# Altium schematic symbol library kmilo17pet-NSC_MiscPower.SchLib: 1552 symbols (part 4 of 43)
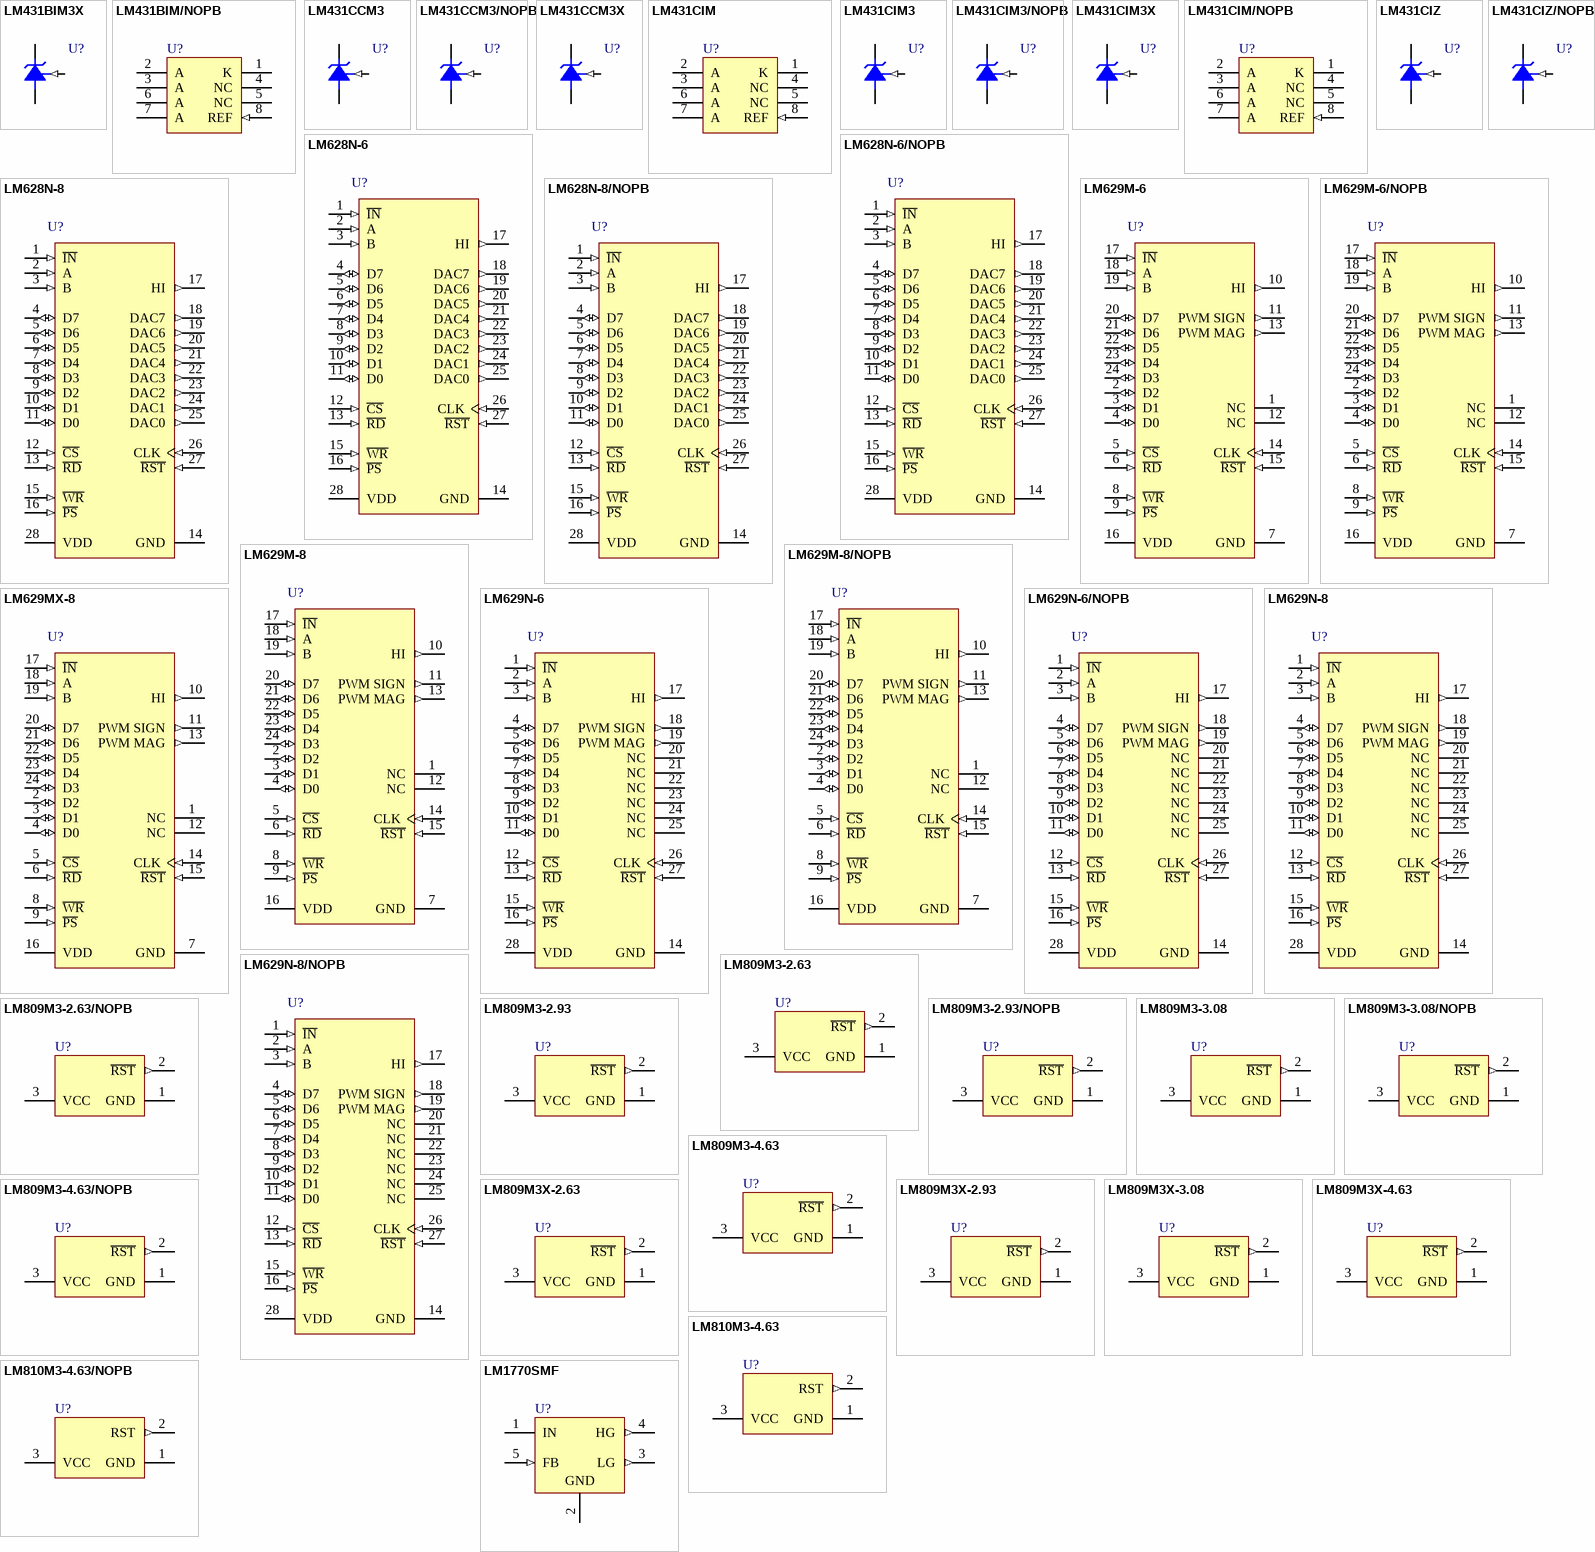
[diagram p60: symbols LM431BIM3X to LM1770SMF]

## LM809M3-2.63/NOPB
designator U?
Microprocessor Reset Circuits, 3-pin SOT-23, Pb-Free; PartNumber: LM809M3-2.63/NOPB; Manufacturer: National Semiconductor; PackageTopMarking: S3B*XTT; PowerWise: N; CompType: MiscPower; High-Reliability: Y; DatasheetVersion: Sep-2002; PackageVersion: revB, Mar-2003; PackageReference: MF03A; PackageDescription: Molded SOT-23, .115 x .051 x .037in Body, 3 Lead, .075 in Pitch; RoHS: Y; PinCount: 3; ComponentLink1Description: Manufacturer URL; ComponentLink1URL: http://www.national.com/; ComponentLink2Description: LM809 Datasheet; ComponentLink2URL: http://www.national.com/ds/LM/LM809.pdf; ComponentLink3Description: LM809 Web Page; ComponentLink3URL: http://www.national.com/pf/LM/LM809.html; ComponentLink4Description: MF03A Package Page; ComponentLink4URL: http://www.national.com/packaging/folders/mf03a.html
footprint MF03A_N (SOT23, 3-Leads, Body 2.9x1.3mm, Pitch 0.95mm, Lead Span 2.4mm, IPC Medium Density)
footprint MF03A_L (SOT23, 3-Leads, Body 2.9x1.3mm, Pitch 0.95mm, Lead Span 2.4mm, IPC High Density)
footprint MF03A_M (SOT23, 3-Leads, Body 2.9x1.3mm, Pitch 0.95mm, Lead Span 2.4mm, IPC Low Density)
pins: 1 GND (power), 2 ~{RST} (out), 3 VCC (power)

## LM809M3-2.93
designator U?
Microprocessor Reset Circuit, 2.93V Threshold, 3-pin SOT-23; PartNumber: LM809M3-2.93; Manufacturer: National Semiconductor; PackageTopMarking: S4B*XTT; PowerWise: N; CompType: MiscPower; High-Reliability: Y; DatasheetVersion: Sep-2002; PackageVersion: revB, Mar-2003; PackageReference: MF03A; PackageDescription: Molded SOT-23, .115 x .051 x .037in Body, 3 Lead, .075 in Pitch; RoHS: N; PinCount: 3; ComponentLink1Description: Manufacturer URL; ComponentLink1URL: http://www.national.com/; ComponentLink2Description: LM809 Datasheet; ComponentLink2URL: http://www.national.com/ds/LM/LM809.pdf; ComponentLink3Description: LM809 Web Page; ComponentLink3URL: http://www.national.com/pf/LM/LM809.html; ComponentLink4Description: MF03A Package Page; ComponentLink4URL: http://www.national.com/packaging/folders/mf03a.html
footprint MF03A_N (SOT23, 3-Leads, Body 2.9x1.3mm, Pitch 0.95mm, Lead Span 2.4mm, IPC Medium Density)
footprint MF03A_L (SOT23, 3-Leads, Body 2.9x1.3mm, Pitch 0.95mm, Lead Span 2.4mm, IPC High Density)
footprint MF03A_M (SOT23, 3-Leads, Body 2.9x1.3mm, Pitch 0.95mm, Lead Span 2.4mm, IPC Low Density)
pins: 1 GND (power), 2 ~{RST} (out), 3 VCC (power)

## LM809M3-2.93/NOPB
designator U?
Microprocessor Reset Circuits, 3-pin SOT-23, Pb-Free; PartNumber: LM809M3-2.93/NOPB; Manufacturer: National Semiconductor; PackageTopMarking: S4B*XTT; PowerWise: N; CompType: MiscPower; High-Reliability: Y; DatasheetVersion: Sep-2002; PackageVersion: revB, Mar-2003; PackageReference: MF03A; PackageDescription: Molded SOT-23, .115 x .051 x .037in Body, 3 Lead, .075 in Pitch; RoHS: Y; PinCount: 3; ComponentLink1Description: Manufacturer URL; ComponentLink1URL: http://www.national.com/; ComponentLink2Description: LM809 Datasheet; ComponentLink2URL: http://www.national.com/ds/LM/LM809.pdf; ComponentLink3Description: LM809 Web Page; ComponentLink3URL: http://www.national.com/pf/LM/LM809.html; ComponentLink4Description: MF03A Package Page; ComponentLink4URL: http://www.national.com/packaging/folders/mf03a.html
footprint MF03A_N (SOT23, 3-Leads, Body 2.9x1.3mm, Pitch 0.95mm, Lead Span 2.4mm, IPC Medium Density)
footprint MF03A_L (SOT23, 3-Leads, Body 2.9x1.3mm, Pitch 0.95mm, Lead Span 2.4mm, IPC High Density)
footprint MF03A_M (SOT23, 3-Leads, Body 2.9x1.3mm, Pitch 0.95mm, Lead Span 2.4mm, IPC Low Density)
pins: 1 GND (power), 2 ~{RST} (out), 3 VCC (power)

## LM809M3-3.08
designator U?
Microprocessor Reset Circuit, 3.08V Threshold, 3-pin SOT-23; PartNumber: LM809M3-3.08; Manufacturer: National Semiconductor; PackageTopMarking: S5B*XTT; PowerWise: N; CompType: MiscPower; High-Reliability: Y; DatasheetVersion: Sep-2002; PackageVersion: revB, Mar-2003; PackageReference: MF03A; PackageDescription: Molded SOT-23, .115 x .051 x .037in Body, 3 Lead, .075 in Pitch; RoHS: N; PinCount: 3; ComponentLink1Description: Manufacturer URL; ComponentLink1URL: http://www.national.com/; ComponentLink2Description: LM809 Datasheet; ComponentLink2URL: http://www.national.com/ds/LM/LM809.pdf; ComponentLink3Description: LM809 Web Page; ComponentLink3URL: http://www.national.com/pf/LM/LM809.html; ComponentLink4Description: MF03A Package Page; ComponentLink4URL: http://www.national.com/packaging/folders/mf03a.html
footprint MF03A_N (SOT23, 3-Leads, Body 2.9x1.3mm, Pitch 0.95mm, Lead Span 2.4mm, IPC Medium Density)
footprint MF03A_L (SOT23, 3-Leads, Body 2.9x1.3mm, Pitch 0.95mm, Lead Span 2.4mm, IPC High Density)
footprint MF03A_M (SOT23, 3-Leads, Body 2.9x1.3mm, Pitch 0.95mm, Lead Span 2.4mm, IPC Low Density)
pins: 1 GND (power), 2 ~{RST} (out), 3 VCC (power)

## LM809M3-3.08/NOPB
designator U?
Microprocessor Reset Circuits, 3-pin SOT-23, Pb-Free; PartNumber: LM809M3-3.08/NOPB; Manufacturer: National Semiconductor; PackageTopMarking: S5B*XTT; PowerWise: N; CompType: MiscPower; High-Reliability: Y; DatasheetVersion: Sep-2002; PackageVersion: revB, Mar-2003; PackageReference: MF03A; PackageDescription: Molded SOT-23, .115 x .051 x .037in Body, 3 Lead, .075 in Pitch; RoHS: Y; PinCount: 3; ComponentLink1Description: Manufacturer URL; ComponentLink1URL: http://www.national.com/; ComponentLink2Description: LM809 Datasheet; ComponentLink2URL: http://www.national.com/ds/LM/LM809.pdf; ComponentLink3Description: LM809 Web Page; ComponentLink3URL: http://www.national.com/pf/LM/LM809.html; ComponentLink4Description: MF03A Package Page; ComponentLink4URL: http://www.national.com/packaging/folders/mf03a.html
footprint MF03A_N (SOT23, 3-Leads, Body 2.9x1.3mm, Pitch 0.95mm, Lead Span 2.4mm, IPC Medium Density)
footprint MF03A_L (SOT23, 3-Leads, Body 2.9x1.3mm, Pitch 0.95mm, Lead Span 2.4mm, IPC High Density)
footprint MF03A_M (SOT23, 3-Leads, Body 2.9x1.3mm, Pitch 0.95mm, Lead Span 2.4mm, IPC Low Density)
pins: 1 GND (power), 2 ~{RST} (out), 3 VCC (power)

## LM809M3-4.63
designator U?
Microprocessor Reset Circuit, 4.63V Threshold, 3-pin SOT-23; PartNumber: LM809M3-4.63; Manufacturer: National Semiconductor; PackageTopMarking: S8B*XTT; PowerWise: N; CompType: MiscPower; High-Reliability: Y; DatasheetVersion: Sep-2002; PackageVersion: revB, Mar-2003; PackageReference: MF03A; PackageDescription: Molded SOT-23, .115 x .051 x .037in Body, 3 Lead, .075 in Pitch; RoHS: N; PinCount: 3; ComponentLink1Description: Manufacturer URL; ComponentLink1URL: http://www.national.com/; ComponentLink2Description: LM809 Datasheet; ComponentLink2URL: http://www.national.com/ds/LM/LM809.pdf; ComponentLink3Description: LM809 Web Page; ComponentLink3URL: http://www.national.com/pf/LM/LM809.html; ComponentLink4Description: MF03A Package Page; ComponentLink4URL: http://www.national.com/packaging/folders/mf03a.html
footprint MF03A_N (SOT23, 3-Leads, Body 2.9x1.3mm, Pitch 0.95mm, Lead Span 2.4mm, IPC Medium Density)
footprint MF03A_L (SOT23, 3-Leads, Body 2.9x1.3mm, Pitch 0.95mm, Lead Span 2.4mm, IPC High Density)
footprint MF03A_M (SOT23, 3-Leads, Body 2.9x1.3mm, Pitch 0.95mm, Lead Span 2.4mm, IPC Low Density)
pins: 1 GND (power), 2 ~{RST} (out), 3 VCC (power)

## LM809M3-4.63/NOPB
designator U?
Microprocessor Reset Circuits, 3-pin SOT-23, Pb-Free; PartNumber: LM809M3-4.63/NOPB; Manufacturer: National Semiconductor; PackageTopMarking: S8B*XTT; PowerWise: N; CompType: MiscPower; High-Reliability: Y; DatasheetVersion: Sep-2002; PackageVersion: revB, Mar-2003; PackageReference: MF03A; PackageDescription: Molded SOT-23, .115 x .051 x .037in Body, 3 Lead, .075 in Pitch; RoHS: Y; PinCount: 3; ComponentLink1Description: Manufacturer URL; ComponentLink1URL: http://www.national.com/; ComponentLink2Description: LM809 Datasheet; ComponentLink2URL: http://www.national.com/ds/LM/LM809.pdf; ComponentLink3Description: LM809 Web Page; ComponentLink3URL: http://www.national.com/pf/LM/LM809.html; ComponentLink4Description: MF03A Package Page; ComponentLink4URL: http://www.national.com/packaging/folders/mf03a.html
footprint MF03A_N (SOT23, 3-Leads, Body 2.9x1.3mm, Pitch 0.95mm, Lead Span 2.4mm, IPC Medium Density)
footprint MF03A_L (SOT23, 3-Leads, Body 2.9x1.3mm, Pitch 0.95mm, Lead Span 2.4mm, IPC High Density)
footprint MF03A_M (SOT23, 3-Leads, Body 2.9x1.3mm, Pitch 0.95mm, Lead Span 2.4mm, IPC Low Density)
pins: 1 GND (power), 2 ~{RST} (out), 3 VCC (power)

## LM809M3X-2.63
designator U?
Microprocessor Reset Circuits, 3-pin SOT-23; PartNumber: LM809M3X-2.63; Manufacturer: National Semiconductor; PackageTopMarking: S3B*XTT; PowerWise: N; CompType: MiscPower; High-Reliability: Y; DatasheetVersion: Sep-2002; PackageVersion: revB, Mar-2003; PackageReference: MF03A; PackageDescription: Molded SOT-23, .115 x .051 x .037in Body, 3 Lead, .075 in Pitch; RoHS: N; PinCount: 3; ComponentLink1Description: Manufacturer URL; ComponentLink1URL: http://www.national.com/; ComponentLink2Description: LM809 Datasheet; ComponentLink2URL: http://www.national.com/ds/LM/LM809.pdf; ComponentLink3Description: LM809 Web Page; ComponentLink3URL: http://www.national.com/pf/LM/LM809.html; ComponentLink4Description: MF03A Package Page; ComponentLink4URL: http://www.national.com/packaging/folders/mf03a.html
footprint MF03A_N (SOT23, 3-Leads, Body 2.9x1.3mm, Pitch 0.95mm, Lead Span 2.4mm, IPC Medium Density)
footprint MF03A_L (SOT23, 3-Leads, Body 2.9x1.3mm, Pitch 0.95mm, Lead Span 2.4mm, IPC High Density)
footprint MF03A_M (SOT23, 3-Leads, Body 2.9x1.3mm, Pitch 0.95mm, Lead Span 2.4mm, IPC Low Density)
pins: 1 GND (power), 2 ~{RST} (out), 3 VCC (power)

## LM809M3X-2.93
designator U?
Microprocessor Reset Circuits, 3-pin SOT-23; PartNumber: LM809M3X-2.93; Manufacturer: National Semiconductor; PackageTopMarking: S4B*XTT; PowerWise: N; CompType: MiscPower; High-Reliability: Y; DatasheetVersion: Sep-2002; PackageVersion: revB, Mar-2003; PackageReference: MF03A; PackageDescription: Molded SOT-23, .115 x .051 x .037in Body, 3 Lead, .075 in Pitch; RoHS: N; PinCount: 3; ComponentLink1Description: Manufacturer URL; ComponentLink1URL: http://www.national.com/; ComponentLink2Description: LM809 Datasheet; ComponentLink2URL: http://www.national.com/ds/LM/LM809.pdf; ComponentLink3Description: LM809 Web Page; ComponentLink3URL: http://www.national.com/pf/LM/LM809.html; ComponentLink4Description: MF03A Package Page; ComponentLink4URL: http://www.national.com/packaging/folders/mf03a.html
footprint MF03A_N (SOT23, 3-Leads, Body 2.9x1.3mm, Pitch 0.95mm, Lead Span 2.4mm, IPC Medium Density)
footprint MF03A_L (SOT23, 3-Leads, Body 2.9x1.3mm, Pitch 0.95mm, Lead Span 2.4mm, IPC High Density)
footprint MF03A_M (SOT23, 3-Leads, Body 2.9x1.3mm, Pitch 0.95mm, Lead Span 2.4mm, IPC Low Density)
pins: 1 GND (power), 2 ~{RST} (out), 3 VCC (power)

## LM809M3X-3.08
designator U?
Microprocessor Reset Circuits, 3-pin SOT-23; PartNumber: LM809M3X-3.08; Manufacturer: National Semiconductor; PackageTopMarking: S5B*XTT; PowerWise: N; CompType: MiscPower; High-Reliability: Y; DatasheetVersion: Sep-2002; PackageVersion: revB, Mar-2003; PackageReference: MF03A; PackageDescription: Molded SOT-23, .115 x .051 x .037in Body, 3 Lead, .075 in Pitch; RoHS: N; PinCount: 3; ComponentLink1Description: Manufacturer URL; ComponentLink1URL: http://www.national.com/; ComponentLink2Description: LM809 Datasheet; ComponentLink2URL: http://www.national.com/ds/LM/LM809.pdf; ComponentLink3Description: LM809 Web Page; ComponentLink3URL: http://www.national.com/pf/LM/LM809.html; ComponentLink4Description: MF03A Package Page; ComponentLink4URL: http://www.national.com/packaging/folders/mf03a.html
footprint MF03A_N (SOT23, 3-Leads, Body 2.9x1.3mm, Pitch 0.95mm, Lead Span 2.4mm, IPC Medium Density)
footprint MF03A_L (SOT23, 3-Leads, Body 2.9x1.3mm, Pitch 0.95mm, Lead Span 2.4mm, IPC High Density)
footprint MF03A_M (SOT23, 3-Leads, Body 2.9x1.3mm, Pitch 0.95mm, Lead Span 2.4mm, IPC Low Density)
pins: 1 GND (power), 2 ~{RST} (out), 3 VCC (power)

## LM809M3X-4.63
designator U?
Microprocessor Reset Circuits, 3-pin SOT-23; PartNumber: LM809M3X-4.63; Manufacturer: National Semiconductor; PackageTopMarking: S8B*XTT; PowerWise: N; CompType: MiscPower; High-Reliability: Y; DatasheetVersion: Sep-2002; PackageVersion: revB, Mar-2003; PackageReference: MF03A; PackageDescription: Molded SOT-23, .115 x .051 x .037in Body, 3 Lead, .075 in Pitch; RoHS: N; PinCount: 3; ComponentLink1Description: Manufacturer URL; ComponentLink1URL: http://www.national.com/; ComponentLink2Description: LM809 Datasheet; ComponentLink2URL: http://www.national.com/ds/LM/LM809.pdf; ComponentLink3Description: LM809 Web Page; ComponentLink3URL: http://www.national.com/pf/LM/LM809.html; ComponentLink4Description: MF03A Package Page; ComponentLink4URL: http://www.national.com/packaging/folders/mf03a.html
footprint MF03A_N (SOT23, 3-Leads, Body 2.9x1.3mm, Pitch 0.95mm, Lead Span 2.4mm, IPC Medium Density)
footprint MF03A_L (SOT23, 3-Leads, Body 2.9x1.3mm, Pitch 0.95mm, Lead Span 2.4mm, IPC High Density)
footprint MF03A_M (SOT23, 3-Leads, Body 2.9x1.3mm, Pitch 0.95mm, Lead Span 2.4mm, IPC Low Density)
pins: 1 GND (power), 2 ~{RST} (out), 3 VCC (power)

## LM810M3-4.63
designator U?
Microprocessor Reset Circuit, 4.63V Threshold, 3-pin SOT-23; PartNumber: LM810M3-4.63; Manufacturer: National Semiconductor; PackageTopMarking: SEB*XTT; PowerWise: N; CompType: MiscPower; High-Reliability: Y; DatasheetVersion: Sep-2002; PackageVersion: revB, Mar-2003; PackageReference: MF03A; PackageDescription: Molded SOT-23, .115 x .051 x .037in Body, 3 Lead, .075 in Pitch; RoHS: N; PinCount: 3; ComponentLink1Description: Manufacturer URL; ComponentLink1URL: http://www.national.com/; ComponentLink2Description: LM810 Datasheet; ComponentLink2URL: http://www.national.com/ds/LM/LM810.pdf; ComponentLink3Description: LM810 Web Page; ComponentLink3URL: http://www.national.com/pf/LM/LM810.html; ComponentLink4Description: MF03A Package Page; ComponentLink4URL: http://www.national.com/packaging/folders/mf03a.html
footprint MF03A_N (SOT23, 3-Leads, Body 2.9x1.3mm, Pitch 0.95mm, Lead Span 2.4mm, IPC Medium Density)
footprint MF03A_L (SOT23, 3-Leads, Body 2.9x1.3mm, Pitch 0.95mm, Lead Span 2.4mm, IPC High Density)
footprint MF03A_M (SOT23, 3-Leads, Body 2.9x1.3mm, Pitch 0.95mm, Lead Span 2.4mm, IPC Low Density)
pins: 1 GND (power), 2 RST (out), 3 VCC (power)

## LM810M3-4.63/NOPB
designator U?
Microprocessor Reset Circuits, 3-pin SOT-23, Pb-Free; PartNumber: LM810M3-4.63/NOPB; Manufacturer: National Semiconductor; PackageTopMarking: SEB*XTT; PowerWise: N; CompType: MiscPower; High-Reliability: Y; DatasheetVersion: Sep-2002; PackageVersion: revB, Mar-2003; PackageReference: MF03A; PackageDescription: Molded SOT-23, .115 x .051 x .037in Body, 3 Lead, .075 in Pitch; RoHS: Y; PinCount: 3; ComponentLink1Description: Manufacturer URL; ComponentLink1URL: http://www.national.com/; ComponentLink2Description: LM810 Datasheet; ComponentLink2URL: http://www.national.com/ds/LM/LM810.pdf; ComponentLink3Description: LM810 Web Page; ComponentLink3URL: http://www.national.com/pf/LM/LM810.html; ComponentLink4Description: MF03A Package Page; ComponentLink4URL: http://www.national.com/packaging/folders/mf03a.html
footprint MF03A_N (SOT23, 3-Leads, Body 2.9x1.3mm, Pitch 0.95mm, Lead Span 2.4mm, IPC Medium Density)
footprint MF03A_L (SOT23, 3-Leads, Body 2.9x1.3mm, Pitch 0.95mm, Lead Span 2.4mm, IPC High Density)
footprint MF03A_M (SOT23, 3-Leads, Body 2.9x1.3mm, Pitch 0.95mm, Lead Span 2.4mm, IPC Low Density)
pins: 1 GND (power), 2 RST (out), 3 VCC (power)

## LM1770SMF
designator U?
Low-Voltage Synchronous Buck Controller With No External Compensation, 5-pin SOT-23; PartNumber: LM1770SMF; Manufacturer: National Semiconductor; PackageTopMarking: SKJB*XTT; PowerWise: Y; CompType: MiscPower; DatasheetVersion: Jul-2006; PackageVersion: revD, Aug-2008; PackageReference: MF05A; PackageDescription: Molded SOT-23, .115 x .063 x .040 in Body, 5 Lead, .0375 in Pitch; RoHS: N; PinCount: 5; High-Reliability: Y; ComponentLink1Description: Manufacturer URL; ComponentLink1URL: http://www.national.com/; ComponentLink2Description: LM1770 Datasheet; ComponentLink2URL: http://www.national.com/ds/LM/LM1770.pdf; ComponentLink3Description: LM1770 Web Page; ComponentLink3URL: http://www.national.com/pf/LM/LM1770.html; ComponentLink4Description: MF05A Package Page; ComponentLink4URL: http://www.national.com/packaging/folders/mf05a.html
footprint MF05A_N (SOT23, 5-Leads, Body 2.9x1.6mm, Pitch 0.95mm, Lead Span 2.8mm, IPC Medium Density)
footprint MF05A_L (SOT23, 5-Leads, Body 2.9x1.6mm, Pitch 0.95mm, Lead Span 2.8mm, IPC High Density)
footprint MF05A_M (SOT23, 5-Leads, Body 2.9x1.6mm, Pitch 0.95mm, Lead Span 2.8mm, IPC Low Density)
pins: 1 IN (power), 2 GND (power), 3 LG (out), 4 HG (out), 5 FB (in)

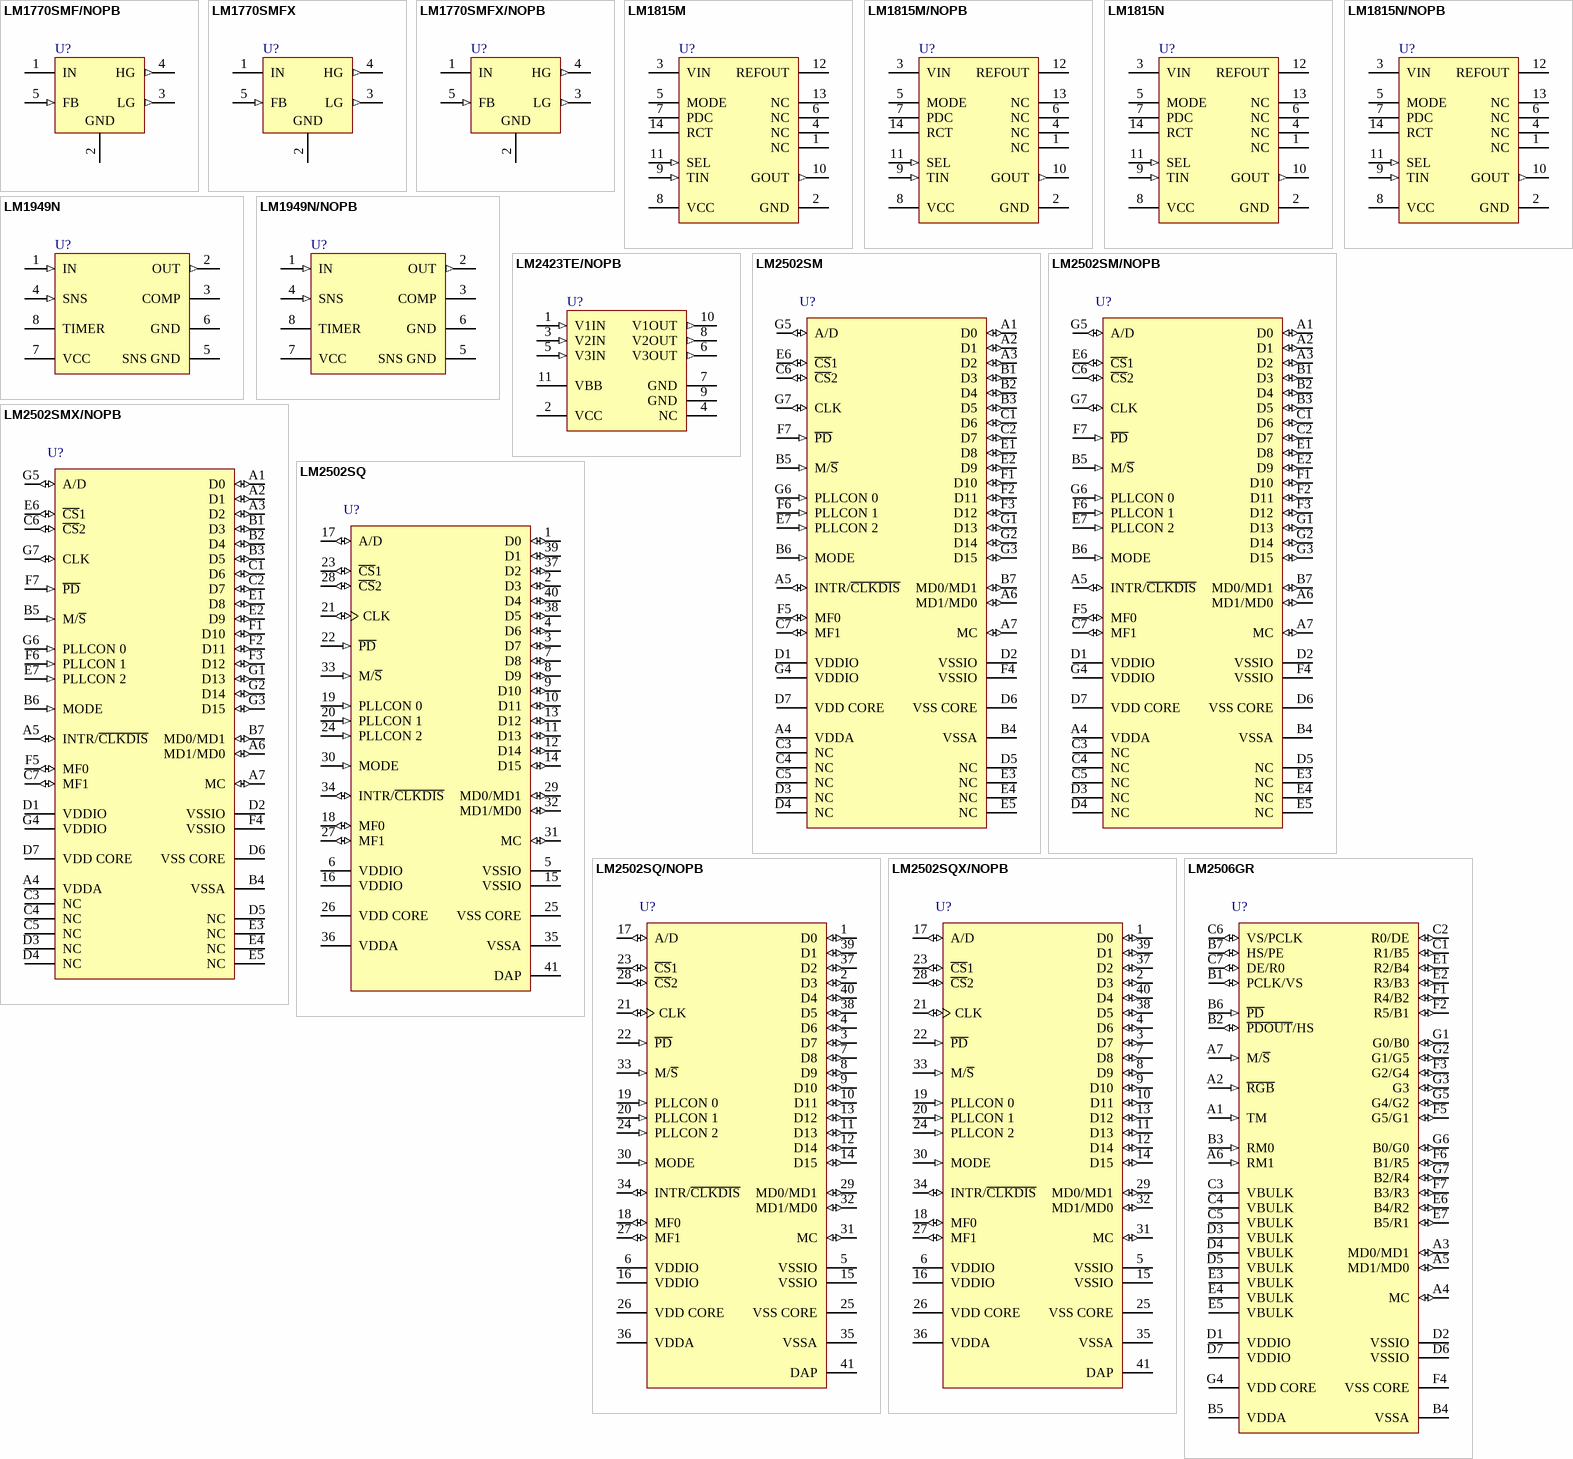
[diagram p4: symbols LM1770SMF/NOPB to LM2506GR]

## LM1770SMF/NOPB
designator U?
Low-Voltage SOT23 Synchronous Buck Controller With No External Compensation, 5-pin SOT-23, Pb-Free; PartNumber: LM1770SMF/NOPB; Manufacturer: National Semiconductor; PackageTopMarking: SKJB*XTT; PowerWise: Y; CompType: MiscPower; DatasheetVersion: Jul-2006; PackageVersion: revD, Aug-2008; PackageReference: MF05A; PackageDescription: Molded SOT-23, .115 x .063 x .040 in Body, 5 Lead, .0375 in Pitch; RoHS: Y; PinCount: 5; High-Reliability: Y; ComponentLink1Description: Manufacturer URL; ComponentLink1URL: http://www.national.com/; ComponentLink2Description: LM1770 Datasheet; ComponentLink2URL: http://www.national.com/ds/LM/LM1770.pdf; ComponentLink3Description: LM1770 Web Page; ComponentLink3URL: http://www.national.com/pf/LM/LM1770.html; ComponentLink4Description: MF05A Package Page; ComponentLink4URL: http://www.national.com/packaging/folders/mf05a.html
footprint MF05A_N (SOT23, 5-Leads, Body 2.9x1.6mm, Pitch 0.95mm, Lead Span 2.8mm, IPC Medium Density)
footprint MF05A_L (SOT23, 5-Leads, Body 2.9x1.6mm, Pitch 0.95mm, Lead Span 2.8mm, IPC High Density)
footprint MF05A_M (SOT23, 5-Leads, Body 2.9x1.6mm, Pitch 0.95mm, Lead Span 2.8mm, IPC Low Density)
pins: 1 IN (power), 2 GND (power), 3 LG (out), 4 HG (out), 5 FB (in)

## LM1770SMFX
designator U?
Low-Voltage SOT23 Synchronous Buck Controller With No External Compensation, 5-pin SOT-23; PartNumber: LM1770SMFX; Manufacturer: National Semiconductor; PackageTopMarking: SKJB*XTT; PowerWise: Y; CompType: MiscPower; DatasheetVersion: Jul-2006; PackageVersion: revD, Aug-2008; PackageReference: MF05A; PackageDescription: Molded SOT-23, .115 x .063 x .040 in Body, 5 Lead, .0375 in Pitch; RoHS: N; PinCount: 5; High-Reliability: Y; ComponentLink1Description: Manufacturer URL; ComponentLink1URL: http://www.national.com/; ComponentLink2Description: LM1770 Datasheet; ComponentLink2URL: http://www.national.com/ds/LM/LM1770.pdf; ComponentLink3Description: LM1770 Web Page; ComponentLink3URL: http://www.national.com/pf/LM/LM1770.html; ComponentLink4Description: MF05A Package Page; ComponentLink4URL: http://www.national.com/packaging/folders/mf05a.html
footprint MF05A_N (SOT23, 5-Leads, Body 2.9x1.6mm, Pitch 0.95mm, Lead Span 2.8mm, IPC Medium Density)
footprint MF05A_L (SOT23, 5-Leads, Body 2.9x1.6mm, Pitch 0.95mm, Lead Span 2.8mm, IPC High Density)
footprint MF05A_M (SOT23, 5-Leads, Body 2.9x1.6mm, Pitch 0.95mm, Lead Span 2.8mm, IPC Low Density)
pins: 1 IN (power), 2 GND (power), 3 LG (out), 4 HG (out), 5 FB (in)

## LM1770SMFX/NOPB
designator U?
Low-Voltage SOT23 Synchronous Buck Controller With No External Compensation, 5-pin SOT-23, Pb-Free; PartNumber: LM1770SMFX/NOPB; Manufacturer: National Semiconductor; PackageTopMarking: SKJB*XTT; PowerWise: Y; CompType: MiscPower; DatasheetVersion: Jul-2006; PackageVersion: revD, Aug-2008; PackageReference: MF05A; PackageDescription: Molded SOT-23, .115 x .063 x .040 in Body, 5 Lead, .0375 in Pitch; RoHS: Y; PinCount: 5; High-Reliability: Y; ComponentLink1Description: Manufacturer URL; ComponentLink1URL: http://www.national.com/; ComponentLink2Description: LM1770 Datasheet; ComponentLink2URL: http://www.national.com/ds/LM/LM1770.pdf; ComponentLink3Description: LM1770 Web Page; ComponentLink3URL: http://www.national.com/pf/LM/LM1770.html; ComponentLink4Description: MF05A Package Page; ComponentLink4URL: http://www.national.com/packaging/folders/mf05a.html
footprint MF05A_N (SOT23, 5-Leads, Body 2.9x1.6mm, Pitch 0.95mm, Lead Span 2.8mm, IPC Medium Density)
footprint MF05A_L (SOT23, 5-Leads, Body 2.9x1.6mm, Pitch 0.95mm, Lead Span 2.8mm, IPC High Density)
footprint MF05A_M (SOT23, 5-Leads, Body 2.9x1.6mm, Pitch 0.95mm, Lead Span 2.8mm, IPC Low Density)
pins: 1 IN (power), 2 GND (power), 3 LG (out), 4 HG (out), 5 FB (in)

## LM1815M
designator U?
Adaptive Variable Reluctance Sensor Amplifier, 14-pin Narrow SOIC; PartNumber: LM1815M; Manufacturer: National Semiconductor; PackageTopMarking: NSUZXYTTE#*LM1815M; PowerWise: N; CompType: MiscPower; High-Reliability: Y; DatasheetVersion: Mar-2005; PackageVersion: revJ, Jan-1996; PackageReference: M14A; PackageDescription: Molded Package S.O., .150in Wide, 14 Lead; RoHS: N; PinCount: 14; Code_JEDEC: MS-012AB; Code_IPC: SOIC127P600-14; ComponentLink1Description: Manufacturer URL; ComponentLink1URL: http://www.national.com/; ComponentLink2Description: LM1815 Datasheet; ComponentLink2URL: http://www.national.com/ds/LM/LM1815.pdf; ComponentLink3Description: LM1815 Web Page; ComponentLink3URL: http://www.national.com/pf/LM/LM1815.html; ComponentLink4Description: M14A Package Page; ComponentLink4URL: http://www.national.com/packaging/folders/m14a.html
footprint M14A_N (SOIC, 14-Leads, Body 8.6x3.9mm, Pitch 1.27mm, IPC Medium Density)
footprint M14A_L (SOIC, 14-Leads, Body 8.6x3.9mm, Pitch 1.27mm, IPC High Density)
footprint M14A_M (SOIC, 14-Leads, Body 8.6x3.9mm, Pitch 1.27mm, IPC Low Density)
pins: 1 NC, 2 GND (power), 3 VIN (power), 4 NC, 5 MODE, 6 NC, 7 PDC, 8 VCC (power), 9 TIN (in), 10 GOUT (out), 11 SEL (in), 12 REFOUT (oc), 13 NC, 14 RCT

## LM1815M/NOPB
designator U?
Adaptive Variable Reluctance Sensor Amplifier, 14-pin Narrow SOIC, Pb-Free; PartNumber: LM1815M/NOPB; Manufacturer: National Semiconductor; PackageTopMarking: NSUZXYTTE#*LM1815M; PowerWise: N; CompType: MiscPower; High-Reliability: Y; DatasheetVersion: Mar-2005; PackageVersion: revJ, Jan-1996; PackageReference: M14A; PackageDescription: Molded Package S.O., .150in Wide, 14 Lead; RoHS: Y; PinCount: 14; Code_JEDEC: MS-012AB; Code_IPC: SOIC127P600-14; ComponentLink1Description: Manufacturer URL; ComponentLink1URL: http://www.national.com/; ComponentLink2Description: LM1815 Datasheet; ComponentLink2URL: http://www.national.com/ds/LM/LM1815.pdf; ComponentLink3Description: LM1815 Web Page; ComponentLink3URL: http://www.national.com/pf/LM/LM1815.html; ComponentLink4Description: M14A Package Page; ComponentLink4URL: http://www.national.com/packaging/folders/m14a.html
footprint M14A_N (SOIC, 14-Leads, Body 8.6x3.9mm, Pitch 1.27mm, IPC Medium Density)
footprint M14A_L (SOIC, 14-Leads, Body 8.6x3.9mm, Pitch 1.27mm, IPC High Density)
footprint M14A_M (SOIC, 14-Leads, Body 8.6x3.9mm, Pitch 1.27mm, IPC Low Density)
pins: 1 NC, 2 GND (power), 3 VIN (power), 4 NC, 5 MODE, 6 NC, 7 PDC, 8 VCC (power), 9 TIN (in), 10 GOUT (out), 11 SEL (in), 12 REFOUT (oc), 13 NC, 14 RCT

## LM1815N
designator U?
Adaptive Variable Reluctance Sensor Amplifier, 14-pin MDIP; PartNumber: LM1815N; Manufacturer: National Semiconductor; PackageTopMarking: NSUZXYYTTE#*LM1815N; PowerWise: N; CompType: MiscPower; High-Reliability: Y; DatasheetVersion: Mar-2005; PackageVersion: revG, May-2006; PackageReference: N14A; PackageDescription: MDIP, .750 x .250 x.130in, 14 Lead, .100in Pitch; RoHS: N; PinCount: 14; Code_JEDEC: MS-001-AA; ComponentLink1Description: Manufacturer URL; ComponentLink1URL: http://www.national.com/; ComponentLink2Description: LM1815 Datasheet; ComponentLink2URL: http://www.national.com/ds/LM/LM1815.pdf; ComponentLink3Description: LM1815 Web Page; ComponentLink3URL: http://www.national.com/pf/LM/LM1815.html; ComponentLink4Description: N14A Package Page; ComponentLink4URL: http://www.national.com/packaging/folders/n14a.html
footprint N14A (DIP, 14-Leads, Row Spacing 7.62mm, Pitch 2.54mm, Body 19.56x6.35mm)
pins: 1 NC, 2 GND (power), 3 VIN (power), 4 NC, 5 MODE, 6 NC, 7 PDC, 8 VCC (power), 9 TIN (in), 10 GOUT (out), 11 SEL (in), 12 REFOUT (oc), 13 NC, 14 RCT

## LM1815N/NOPB
designator U?
Adaptive Variable Reluctance Sensor Amplifier, 14-pin MDIP, Pb-Free; PartNumber: LM1815N/NOPB; Manufacturer: National Semiconductor; PackageTopMarking: NSUZXYYTTE#*LM1815N; PowerWise: N; CompType: MiscPower; High-Reliability: Y; DatasheetVersion: Mar-2005; PackageVersion: revG, May-2006; PackageReference: N14A; PackageDescription: MDIP, .750 x .250 x.130in, 14 Lead, .100in Pitch; RoHS: Y; PinCount: 14; Code_JEDEC: MS-001-AA; ComponentLink1Description: Manufacturer URL; ComponentLink1URL: http://www.national.com/; ComponentLink2Description: LM1815 Datasheet; ComponentLink2URL: http://www.national.com/ds/LM/LM1815.pdf; ComponentLink3Description: LM1815 Web Page; ComponentLink3URL: http://www.national.com/pf/LM/LM1815.html; ComponentLink4Description: N14A Package Page; ComponentLink4URL: http://www.national.com/packaging/folders/n14a.html
footprint N14A (DIP, 14-Leads, Row Spacing 7.62mm, Pitch 2.54mm, Body 19.56x6.35mm)
pins: 1 NC, 2 GND (power), 3 VIN (power), 4 NC, 5 MODE, 6 NC, 7 PDC, 8 VCC (power), 9 TIN (in), 10 GOUT (out), 11 SEL (in), 12 REFOUT (oc), 13 NC, 14 RCT

## LM1949N
designator U?
Injector Drive Controller, 8-pin MDIP; PartNumber: LM1949N; Manufacturer: National Semiconductor; PackageTopMarking: NSUZXYTTE#*LM*1949N; PowerWise: N; CompType: MiscPower; High-Reliability: Y; DatasheetVersion: Dec-2008; PackageVersion: revG, May-2006; PackageReference: N08E; PackageDescription: MDIP, .365 x .250 x .130in, 8 Lead, .100in Pitch; RoHS: N; PinCount: 8; Code_JEDEC: MS-001-BA; ComponentLink1Description: Manufacturer URL; ComponentLink1URL: http://www.national.com/; ComponentLink2Description: LM1949 Datasheet; ComponentLink2URL: http://www.national.com/ds/LM/LM1949.pdf; ComponentLink3Description: LM1949 Web Page; ComponentLink3URL: http://www.national.com/pf/LM/LM1949.html; ComponentLink4Description: N08E Package Page; ComponentLink4URL: http://www.national.com/packaging/folders/n08e.html
footprint N08E (DIP, 8-Leads, Row Spacing 7.62mm, Pitch 2.54mm, Body 9.91x6.35mm)
pins: 1 IN (in), 2 OUT (out), 3 COMP, 4 SNS (in), 5 SNS GND (power), 6 GND (power), 7 VCC (power), 8 TIMER

## LM1949N/NOPB
designator U?
Injector Drive Controller, 8-pin MDIP, Pb-Free; PartNumber: LM1949N/NOPB; Manufacturer: National Semiconductor; PackageTopMarking: NSUZXYTTE#*LM*1949N; PowerWise: N; CompType: MiscPower; High-Reliability: Y; DatasheetVersion: Dec-2008; PackageVersion: revG, May-2006; PackageReference: N08E; PackageDescription: MDIP, .365 x .250 x .130in, 8 Lead, .100in Pitch; RoHS: Y; PinCount: 8; Code_JEDEC: MS-001-BA; ComponentLink1Description: Manufacturer URL; ComponentLink1URL: http://www.national.com/; ComponentLink2Description: LM1949 Datasheet; ComponentLink2URL: http://www.national.com/ds/LM/LM1949.pdf; ComponentLink3Description: LM1949 Web Page; ComponentLink3URL: http://www.national.com/pf/LM/LM1949.html; ComponentLink4Description: N08E Package Page; ComponentLink4URL: http://www.national.com/packaging/folders/n08e.html
footprint N08E (DIP, 8-Leads, Row Spacing 7.62mm, Pitch 2.54mm, Body 9.91x6.35mm)
pins: 1 IN (in), 2 OUT (out), 3 COMP, 4 SNS (in), 5 SNS GND (power), 6 GND (power), 7 VCC (power), 8 TIMER

## LM2423TE/NOPB
designator U?
220V Monolithic Triple Channel 15 MHz CRT DTV Driver, 11 pin TO-220; PartNumber: LM2423TE/NOPB; Manufacturer: National Semiconductor; PackageTopMarking: NSUZXYTTE#*LM2423TE; PowerWise: N; CompType: MiscPower; High-Reliability: Y; DatasheetVersion: Jan-2006; PackageVersion: revA, Sep-2003; PackageReference: TE11B; PackageDescription: TO-220, Molded, .788 x .421 x .177in Body, 11 Bent Staggered Leads, .067in Pitch, High Volt.; RoHS: Y; PinCount: 11; ComponentLink1Description: Manufacturer URL; ComponentLink1URL: http://www.national.com/; ComponentLink2Description: LM2423TE Datasheet; ComponentLink2URL: http://www.national.com/ds/LM/LM2423.pdf; ComponentLink3Description: LM2423TE Web Page; ComponentLink3URL: http://www.national.com/pf/LM/LM2423TE.html; ComponentLink4Description: TE11B Package Page; ComponentLink4URL: http://www.national.com/packaging/folders/te11b.html
footprint TE11B (TO, Thru-Hole, Vertical, Heatsink Mounted; 11 Bent Staggered Leads; Body 20x10.7x4.5mm, Pitch 1.7 mm)
pins: 1 V1IN (in), 2 VCC (power), 3 V2IN (in), 4 NC, 5 V3IN (in), 6 V3OUT (out), 7 GND (power), 8 V2OUT (out), 9 GND (power), 10 V1OUT (out), 11 VBB (power)

## LM2502SM
designator U?
Mobile Pixel Link (MPL) Display Interface Serializer and Deserializer, 49-pin UFBGA; PartNumber: LM2502SM; Manufacturer: National Semiconductor; PackageTopMarking: ZXYTT*L2502; PowerWise: Y; CompType: MiscPower; DatasheetVersion: Jan-2006; PackageVersion: revD, Jul-2007; PackageReference: SLH49A; PackageDescription: UFBGA, Plastic, Laminate, 4 x 4 x 1mm Body, 49 Ball, 0.5mm Pitch; RoHS: Y; PinCount: 49; High-Reliability: Y; ComponentLink1Description: Manufacturer URL; ComponentLink1URL: http://www.national.com/; ComponentLink2Description: LM2502 Datasheet; ComponentLink2URL: http://www.national.com/ds/LM/LM2502.pdf; ComponentLink3Description: LM2502 Web Page; ComponentLink3URL: http://www.national.com/pf/LM/LM2502.html; ComponentLink4Description: SLH49A Package Page; ComponentLink4URL: http://www.national.com/packaging/folders/slh49a.html
footprint SLH49A (BGA, 49-Leads, Body 4x4mm, Pitch 0.5mm)
pins: A1 D0 (io), A2 D1 (io), A3 D2 (io), A4 VDDA (power), A5 INTR/~{CLKDIS} (io), A6 MD1/MD0 (io), A7 MC (io), B1 D3 (io), B2 D4 (io), B3 D5 (io), B4 VSSA (power), B5 M/~{S} (in), B6 MODE (in), B7 MD0/MD1 (io), C1 D6 (io), C2 D7 (io), C3 NC, C4 NC, C5 NC, C6 ~{CS}2 (io), C7 MF1 (io), D1 VDDIO (power), D2 VSSIO (power), D3 NC, D4 NC, D5 NC, D6 VSS CORE (power), D7 VDD CORE (power), E1 D8 (io), E2 D9 (io), E3 NC, E4 NC, E5 NC, E6 ~{CS}1 (io), E7 PLLCON 2 (in), F1 D10 (io), F2 D11 (io), F3 D12 (io), F4 VSSIO (power), F5 MF0 (io), F6 PLLCON 1 (in), F7 ~{PD} (in), G1 D13 (io), G2 D14 (io), G3 D15 (io), G4 VDDIO (power), G5 A/D (io), G6 PLLCON 0 (in), G7 CLK (io)

## LM2502SM/NOPB
designator U?
Mobile Pixel Link (MPL) Display Interface Serializer and Deserializer, 49-pin UFBGA, Pb-Free; PartNumber: LM2502SM/NOPB; Manufacturer: National Semiconductor; PackageTopMarking: ZXYTT*L2502; PowerWise: Y; CompType: MiscPower; DatasheetVersion: Jan-2006; PackageVersion: revD, Jul-2007; PackageReference: SLH49A; PackageDescription: UFBGA, Plastic, Laminate, 4 x 4 x 1mm Body, 49 Ball, 0.5mm Pitch; RoHS: Y; PinCount: 49; High-Reliability: Y; ComponentLink1Description: Manufacturer URL; ComponentLink1URL: http://www.national.com/; ComponentLink2Description: LM2502 Datasheet; ComponentLink2URL: http://www.national.com/ds/LM/LM2502.pdf; ComponentLink3Description: LM2502 Web Page; ComponentLink3URL: http://www.national.com/pf/LM/LM2502.html; ComponentLink4Description: SLH49A Package Page; ComponentLink4URL: http://www.national.com/packaging/folders/slh49a.html
footprint SLH49A (BGA, 49-Leads, Body 4x4mm, Pitch 0.5mm)
pins: A1 D0 (io), A2 D1 (io), A3 D2 (io), A4 VDDA (power), A5 INTR/~{CLKDIS} (io), A6 MD1/MD0 (io), A7 MC (io), B1 D3 (io), B2 D4 (io), B3 D5 (io), B4 VSSA (power), B5 M/~{S} (in), B6 MODE (in), B7 MD0/MD1 (io), C1 D6 (io), C2 D7 (io), C3 NC, C4 NC, C5 NC, C6 ~{CS}2 (io), C7 MF1 (io), D1 VDDIO (power), D2 VSSIO (power), D3 NC, D4 NC, D5 NC, D6 VSS CORE (power), D7 VDD CORE (power), E1 D8 (io), E2 D9 (io), E3 NC, E4 NC, E5 NC, E6 ~{CS}1 (io), E7 PLLCON 2 (in), F1 D10 (io), F2 D11 (io), F3 D12 (io), F4 VSSIO (power), F5 MF0 (io), F6 PLLCON 1 (in), F7 ~{PD} (in), G1 D13 (io), G2 D14 (io), G3 D15 (io), G4 VDDIO (power), G5 A/D (io), G6 PLLCON 0 (in), G7 CLK (io)

## LM2502SMX/NOPB
designator U?
Mobile Pixel Link (MPL) Display Interface Serializer and Deserializer, 49-pin UFBGA, Pb-Free; PartNumber: LM2502SMX/NOPB; Manufacturer: National Semiconductor; PackageTopMarking: ZXYTT*L2502; PowerWise: Y; CompType: MiscPower; DatasheetVersion: Jan-2006; PackageVersion: revD, Jul-2007; PackageReference: SLH49A; PackageDescription: UFBGA, Plastic, Laminate, 4 x 4 x 1mm Body, 49 Ball, 0.5mm Pitch; RoHS: Y; PinCount: 49; High-Reliability: Y; ComponentLink1Description: Manufacturer URL; ComponentLink1URL: http://www.national.com/; ComponentLink2Description: LM2502 Datasheet; ComponentLink2URL: http://www.national.com/ds/LM/LM2502.pdf; ComponentLink3Description: LM2502 Web Page; ComponentLink3URL: http://www.national.com/pf/LM/LM2502.html; ComponentLink4Description: SLH49A Package Page; ComponentLink4URL: http://www.national.com/packaging/folders/slh49a.html
footprint SLH49A (BGA, 49-Leads, Body 4x4mm, Pitch 0.5mm)
pins: A1 D0 (io), A2 D1 (io), A3 D2 (io), A4 VDDA (power), A5 INTR/~{CLKDIS} (io), A6 MD1/MD0 (io), A7 MC (io), B1 D3 (io), B2 D4 (io), B3 D5 (io), B4 VSSA (power), B5 M/~{S} (in), B6 MODE (in), B7 MD0/MD1 (io), C1 D6 (io), C2 D7 (io), C3 NC, C4 NC, C5 NC, C6 ~{CS}2 (io), C7 MF1 (io), D1 VDDIO (power), D2 VSSIO (power), D3 NC, D4 NC, D5 NC, D6 VSS CORE (power), D7 VDD CORE (power), E1 D8 (io), E2 D9 (io), E3 NC, E4 NC, E5 NC, E6 ~{CS}1 (io), E7 PLLCON 2 (in), F1 D10 (io), F2 D11 (io), F3 D12 (io), F4 VSSIO (power), F5 MF0 (io), F6 PLLCON 1 (in), F7 ~{PD} (in), G1 D13 (io), G2 D14 (io), G3 D15 (io), G4 VDDIO (power), G5 A/D (io), G6 PLLCON 0 (in), G7 CLK (io)

## LM2502SQ
designator U?
Mobile Pixel Link (MPL) Display Interface Serializer and Deserializer, 40-pin LLP; PartNumber: LM2502SQ; Manufacturer: National Semiconductor; PackageTopMarking: NS*UZXYTT*L2502SQ; PowerWise: Y; CompType: MiscPower; DatasheetVersion: Jan-2006; PackageVersion: revB, Jul-2004; PackageReference: SQF40A; PackageDescription: LLP, Quad, 5 x 5 x 0.8mm Body, 40 Lead, 0.4mm Pitch, 3.6 x 3.6mm Exposed Pad; RoHS: Y; PinCount: 40; High-Reliability: Y; ComponentLink1Description: Manufacturer URL; ComponentLink1URL: http://www.national.com/; ComponentLink2Description: LM2502 Datasheet; ComponentLink2URL: http://www.national.com/ds/LM/LM2502.pdf; ComponentLink3Description: LM2502 Web Page; ComponentLink3URL: http://www.national.com/pf/LM/LM2502.html; ComponentLink4Description: SQF40A Package Page; ComponentLink4URL: http://www.national.com/packaging/folders/sqf40a.html
footprint SQF40A (QFN, 41-Leads, Body 5x5mm, Pitch 0.4mm, Thermal Pad 3.6x3.6mm, NSC Recommended)
pins: 1 D0 (io), 2 D3 (io), 3 D7 (io), 4 D6 (io), 5 VSSIO (power), 6 VDDIO (power), 7 D8 (io), 8 D9 (io), 9 D10 (io), 10 D11 (io), 11 D13 (io), 12 D14 (io), 13 D12 (io), 14 D15 (io), 15 VSSIO (power), 16 VDDIO (power), 17 A/D (io), 18 MF0 (io), 19 PLLCON 0 (in), 20 PLLCON 1 (in), 21 CLK (io), 22 ~{PD} (in), 23 ~{CS}1 (io), 24 PLLCON 2 (in), 25 VSS CORE (power), 26 VDD CORE (power), 27 MF1 (io), 28 ~{CS}2 (io), 29 MD0/MD1 (io), 30 MODE (in), 31 MC (io), 32 MD1/MD0 (io), 33 M/~{S} (in), 34 INTR/~{CLKDIS} (io), 35 VSSA (power), 36 VDDA (power), 37 D2 (io), 38 D5 (io), 39 D1 (io), 40 D4 (io), 41 DAP (power)

## LM2502SQ/NOPB
designator U?
Mobile Pixel Link (MPL) Display Interface Serializer and Deserializer, 40 pin LLP; PartNumber: LM2502SQ/NOPB; Manufacturer: National Semiconductor; PackageTopMarking: NS*UZXYTT*L2502SQ; PowerWise: Y; CompType: MiscPower; DatasheetVersion: Jan-2006; PackageVersion: revB, Jul-2004; PackageReference: SQF40A; PackageDescription: LLP, Quad, 5 x 5 x 0.8mm Body, 40 Lead, 0.4mm Pitch, 3.6 x 3.6mm Exposed Pad; RoHS: Y; PinCount: 40; High-Reliability: Y; ComponentLink1Description: Manufacturer URL; ComponentLink1URL: http://www.national.com/; ComponentLink2Description: LM2502 Datasheet; ComponentLink2URL: http://www.national.com/ds/LM/LM2502.pdf; ComponentLink3Description: LM2502 Web Page; ComponentLink3URL: http://www.national.com/pf/LM/LM2502.html; ComponentLink4Description: SQF40A Package Page; ComponentLink4URL: http://www.national.com/packaging/folders/sqf40a.html
footprint SQF40A (QFN, 41-Leads, Body 5x5mm, Pitch 0.4mm, Thermal Pad 3.6x3.6mm, NSC Recommended)
pins: 1 D0 (io), 2 D3 (io), 3 D7 (io), 4 D6 (io), 5 VSSIO (power), 6 VDDIO (power), 7 D8 (io), 8 D9 (io), 9 D10 (io), 10 D11 (io), 11 D13 (io), 12 D14 (io), 13 D12 (io), 14 D15 (io), 15 VSSIO (power), 16 VDDIO (power), 17 A/D (io), 18 MF0 (io), 19 PLLCON 0 (in), 20 PLLCON 1 (in), 21 CLK (io), 22 ~{PD} (in), 23 ~{CS}1 (io), 24 PLLCON 2 (in), 25 VSS CORE (power), 26 VDD CORE (power), 27 MF1 (io), 28 ~{CS}2 (io), 29 MD0/MD1 (io), 30 MODE (in), 31 MC (io), 32 MD1/MD0 (io), 33 M/~{S} (in), 34 INTR/~{CLKDIS} (io), 35 VSSA (power), 36 VDDA (power), 37 D2 (io), 38 D5 (io), 39 D1 (io), 40 D4 (io), 41 DAP (power)

## LM2502SQX/NOPB
designator U?
Mobile Pixel Link (MPL) Display Interface Serializer and Deserializer, 40 pin LLP; PartNumber: LM2502SQX/NOPB; Manufacturer: National Semiconductor; PackageTopMarking: NS*UZXYTT*L2502SQ; PowerWise: Y; CompType: MiscPower; DatasheetVersion: Jan-2006; PackageVersion: revB, Jul-2004; PackageReference: SQF40A; PackageDescription: LLP, Quad, 5 x 5 x 0.8mm Body, 40 Lead, 0.4mm Pitch, 3.6 x 3.6mm Exposed Pad; RoHS: Y; PinCount: 40; High-Reliability: Y; ComponentLink1Description: Manufacturer URL; ComponentLink1URL: http://www.national.com/; ComponentLink2Description: LM2502 Datasheet; ComponentLink2URL: http://www.national.com/ds/LM/LM2502.pdf; ComponentLink3Description: LM2502 Web Page; ComponentLink3URL: http://www.national.com/pf/LM/LM2502.html; ComponentLink4Description: SQF40A Package Page; ComponentLink4URL: http://www.national.com/packaging/folders/sqf40a.html
footprint SQF40A (QFN, 41-Leads, Body 5x5mm, Pitch 0.4mm, Thermal Pad 3.6x3.6mm, NSC Recommended)
pins: 1 D0 (io), 2 D3 (io), 3 D7 (io), 4 D6 (io), 5 VSSIO (power), 6 VDDIO (power), 7 D8 (io), 8 D9 (io), 9 D10 (io), 10 D11 (io), 11 D13 (io), 12 D14 (io), 13 D12 (io), 14 D15 (io), 15 VSSIO (power), 16 VDDIO (power), 17 A/D (io), 18 MF0 (io), 19 PLLCON 0 (in), 20 PLLCON 1 (in), 21 CLK (io), 22 ~{PD} (in), 23 ~{CS}1 (io), 24 PLLCON 2 (in), 25 VSS CORE (power), 26 VDD CORE (power), 27 MF1 (io), 28 ~{CS}2 (io), 29 MD0/MD1 (io), 30 MODE (in), 31 MC (io), 32 MD1/MD0 (io), 33 M/~{S} (in), 34 INTR/~{CLKDIS} (io), 35 VSSA (power), 36 VDDA (power), 37 D2 (io), 38 D5 (io), 39 D1 (io), 40 D4 (io), 41 DAP (power)

## LM2506GR
designator U?
Low Power Mobile Pixel Link (MPL) Level 0, 18-bit RGB Display Interface Serializer and Deserializer, 49-pin Micro-Array; PartNumber: LM2506GR; Manufacturer: National Semiconductor; PackageTopMarking: NS*UZXYTT*L2506GR; PowerWise: N; CompType: MiscPower; High-Reliability: Y; DatasheetVersion: Aug-2006; PackageVersion: revA, Nov-2003; PackageReference: GRA49A; PackageDescription: Micro-Array, 4 x 4 x 1mm Body, 49 Ball, 0.5mm Pitch; RoHS: Y; PinCount: 49; ComponentLink1Description: Manufacturer URL; ComponentLink1URL: http://www.national.com/; ComponentLink2Description: LM2506 Datasheet; ComponentLink2URL: http://www.national.com/ds/LM/LM2506.pdf; ComponentLink3Description: LM2506 Web Page; ComponentLink3URL: http://www.national.com/pf/LM/LM2506.html; ComponentLink4Description: GRA49A Package Page; ComponentLink4URL: http://www.national.com/packaging/folders/gra49a.html
footprint GRA49A (BGA, 49-Leads, Body 4x4mm, Pitch 0.5mm, NSC Recommended)
pins: A1 TM (in), A2 ~{RGB} (in), A3 MD0/MD1 (io), A4 MC (io), A5 MD1/MD0 (io), A6 RM1 (in), A7 M/~{S} (in), B1 PCLK/VS (io), B2 ~{PDOUT}/HS (io), B3 RM0 (in), B4 VSSA (power), B5 VDDA (power), B6 ~{PD} (in), B7 HS/PE (io), C1 R1/B5 (io), C2 R0/DE (io), C3 VBULK (power), C4 VBULK (power), C5 VBULK (power), C6 VS/PCLK (io), C7 DE/R0 (io), D1 VDDIO (power), D2 VSSIO (power), D3 VBULK (power), D4 VBULK (power), D5 VBULK (power), D6 VSSIO (power), D7 VDDIO (power), E1 R2/B4 (io), E2 R3/B3 (io), E3 VBULK (power), E4 VBULK (power), E5 VBULK (power), E6 B4/R2 (io), E7 B5/R1 (io), F1 R4/B2 (io), F2 R5/B1 (io), F3 G2/G4 (io), F4 VSS CORE (power), F5 G5/G1 (io), F6 B1/R5 (io), F7 B3/R3 (io), G1 G0/B0 (io), G2 G1/G5 (io), G3 (io), G4 VDD CORE (power), G5 G4/G2 (io), G6 B0/G0 (io), G7 B2/R4 (io)

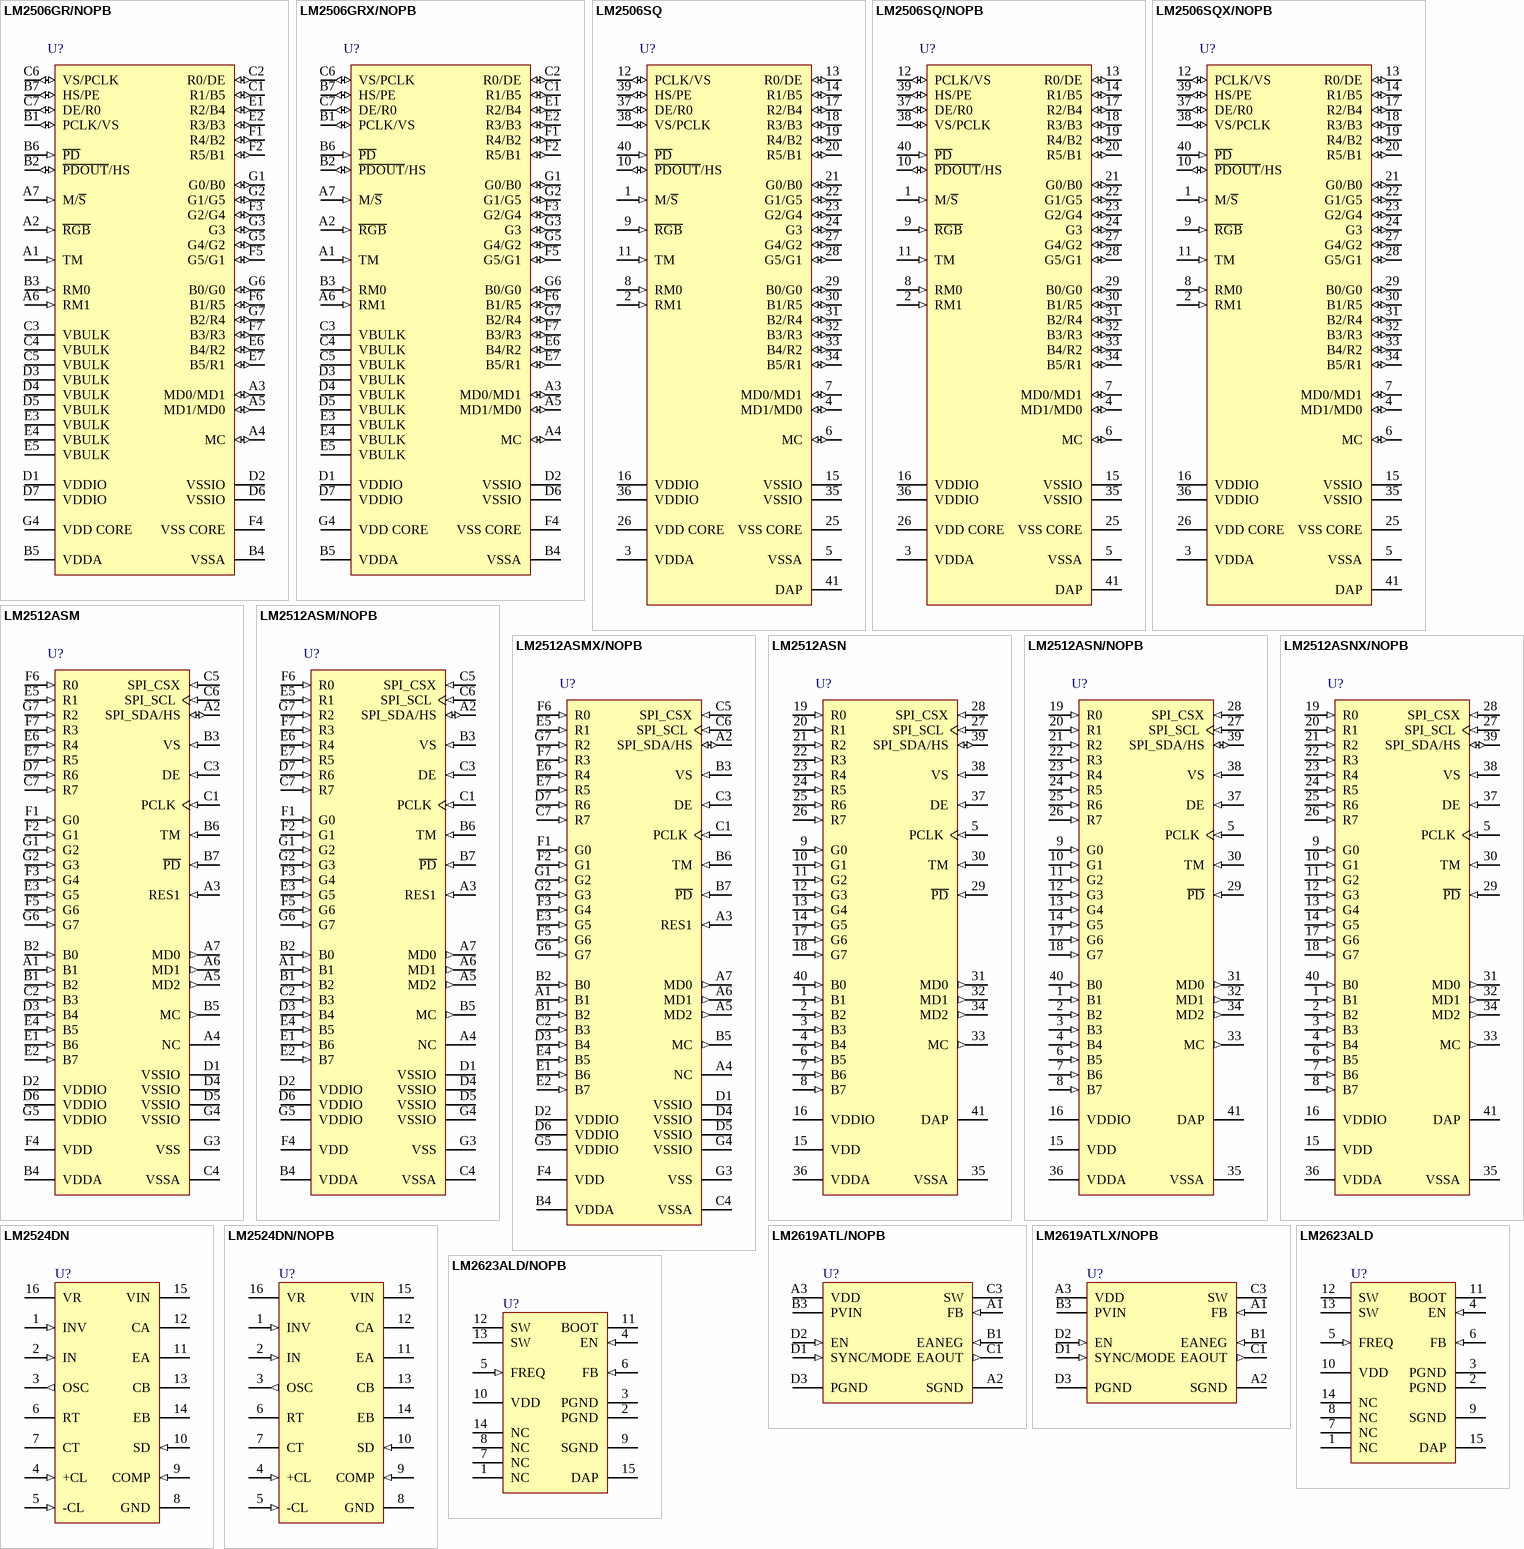
[diagram p5: symbols LM2506GR/NOPB to LM2623ALD/NOPB]

## LM2506GR/NOPB
designator U?
Low Power Mobile Pixel Link (MPL) Level 0, 18-bit RGB Display Interface Serializer and Deserializer, 49-pin Micro-Array, Pb-Free; PartNumber: LM2506GR/NOPB; Manufacturer: National Semiconductor; PackageTopMarking: NS*UZXYTT*L2506GR; PowerWise: N; CompType: MiscPower; High-Reliability: Y; DatasheetVersion: Aug-2006; PackageVersion: revA, Nov-2003; PackageReference: GRA49A; PackageDescription: Micro-Array, 4 x 4 x 1mm Body, 49 Ball, 0.5mm Pitch; RoHS: Y; PinCount: 49; ComponentLink1Description: Manufacturer URL; ComponentLink1URL: http://www.national.com/; ComponentLink2Description: LM2506 Datasheet; ComponentLink2URL: http://www.national.com/ds/LM/LM2506.pdf; ComponentLink3Description: LM2506 Web Page; ComponentLink3URL: http://www.national.com/pf/LM/LM2506.html; ComponentLink4Description: GRA49A Package Page; ComponentLink4URL: http://www.national.com/packaging/folders/gra49a.html
footprint GRA49A (BGA, 49-Leads, Body 4x4mm, Pitch 0.5mm, NSC Recommended)
pins: A1 TM (in), A2 ~{RGB} (in), A3 MD0/MD1 (io), A4 MC (io), A5 MD1/MD0 (io), A6 RM1 (in), A7 M/~{S} (in), B1 PCLK/VS (io), B2 ~{PDOUT}/HS (io), B3 RM0 (in), B4 VSSA (power), B5 VDDA (power), B6 ~{PD} (in), B7 HS/PE (io), C1 R1/B5 (io), C2 R0/DE (io), C3 VBULK (power), C4 VBULK (power), C5 VBULK (power), C6 VS/PCLK (io), C7 DE/R0 (io), D1 VDDIO (power), D2 VSSIO (power), D3 VBULK (power), D4 VBULK (power), D5 VBULK (power), D6 VSSIO (power), D7 VDDIO (power), E1 R2/B4 (io), E2 R3/B3 (io), E3 VBULK (power), E4 VBULK (power), E5 VBULK (power), E6 B4/R2 (io), E7 B5/R1 (io), F1 R4/B2 (io), F2 R5/B1 (io), F3 G2/G4 (io), F4 VSS CORE (power), F5 G5/G1 (io), F6 B1/R5 (io), F7 B3/R3 (io), G1 G0/B0 (io), G2 G1/G5 (io), G3 (io), G4 VDD CORE (power), G5 G4/G2 (io), G6 B0/G0 (io), G7 B2/R4 (io)

## LM2506GRX/NOPB
designator U?
Low Power Mobile Pixel Link (MPL) Level 0, 18-bit RGB Display Interface Serializer and Deserializer, 49-pin Micro-Array, Pb-Free; PartNumber: LM2506GRX/NOPB; Manufacturer: National Semiconductor; PackageTopMarking: NS*UZXYTT*L2506GR; PowerWise: N; CompType: MiscPower; High-Reliability: Y; DatasheetVersion: Aug-2006; PackageVersion: revA, Nov-2003; PackageReference: GRA49A; PackageDescription: Micro-Array, 4 x 4 x 1mm Body, 49 Ball, 0.5mm Pitch; RoHS: Y; PinCount: 49; ComponentLink1Description: Manufacturer URL; ComponentLink1URL: http://www.national.com/; ComponentLink2Description: LM2506 Datasheet; ComponentLink2URL: http://www.national.com/ds/LM/LM2506.pdf; ComponentLink3Description: LM2506 Web Page; ComponentLink3URL: http://www.national.com/pf/LM/LM2506.html; ComponentLink4Description: GRA49A Package Page; ComponentLink4URL: http://www.national.com/packaging/folders/gra49a.html
footprint GRA49A (BGA, 49-Leads, Body 4x4mm, Pitch 0.5mm, NSC Recommended)
pins: A1 TM (in), A2 ~{RGB} (in), A3 MD0/MD1 (io), A4 MC (io), A5 MD1/MD0 (io), A6 RM1 (in), A7 M/~{S} (in), B1 PCLK/VS (io), B2 ~{PDOUT}/HS (io), B3 RM0 (in), B4 VSSA (power), B5 VDDA (power), B6 ~{PD} (in), B7 HS/PE (io), C1 R1/B5 (io), C2 R0/DE (io), C3 VBULK (power), C4 VBULK (power), C5 VBULK (power), C6 VS/PCLK (io), C7 DE/R0 (io), D1 VDDIO (power), D2 VSSIO (power), D3 VBULK (power), D4 VBULK (power), D5 VBULK (power), D6 VSSIO (power), D7 VDDIO (power), E1 R2/B4 (io), E2 R3/B3 (io), E3 VBULK (power), E4 VBULK (power), E5 VBULK (power), E6 B4/R2 (io), E7 B5/R1 (io), F1 R4/B2 (io), F2 R5/B1 (io), F3 G2/G4 (io), F4 VSS CORE (power), F5 G5/G1 (io), F6 B1/R5 (io), F7 B3/R3 (io), G1 G0/B0 (io), G2 G1/G5 (io), G3 (io), G4 VDD CORE (power), G5 G4/G2 (io), G6 B0/G0 (io), G7 B2/R4 (io)

## LM2506SQ
designator U?
Low Power Mobile Pixel Link (MPL) Level 0, 18-bit RGB Display Interface Serializer and Deserializer, 40-pin LLP; PartNumber: LM2506SQ; Manufacturer: National Semiconductor; PackageTopMarking: NS*UZXYTT*L2506SQ; PowerWise: N; CompType: MiscPower; High-Reliability: Y; DatasheetVersion: Aug-2006; PackageVersion: revB, Jul-2004; PackageReference: SQF40A; PackageDescription: LLP, Quad, 5 x 5 x 0.8mm Body, 40 Lead, 0.4mm Pitch, 3.6 x 3.6mm Exposed Pad; RoHS: Y; PinCount: 40; ComponentLink1Description: Manufacturer URL; ComponentLink1URL: http://www.national.com/; ComponentLink2Description: LM2506 Datasheet; ComponentLink2URL: http://www.national.com/ds/LM/LM2506.pdf; ComponentLink3Description: LM2506 Web Page; ComponentLink3URL: http://www.national.com/pf/LM/LM2506.html; ComponentLink4Description: SQF40A Package Page; ComponentLink4URL: http://www.national.com/packaging/folders/sqf40a.html
footprint SQF40A (QFN, 41-Leads, Body 5x5mm, Pitch 0.4mm, Thermal Pad 3.6x3.6mm, NSC Recommended)
pins: 1 M/~{S} (in), 2 RM1 (in), 3 VDDA (power), 4 MD1/MD0 (io), 5 VSSA (power), 6 MC (io), 7 MD0/MD1 (io), 8 RM0 (in), 9 ~{RGB} (in), 10 ~{PDOUT}/HS (io), 11 TM (in), 12 PCLK/VS (io), 13 R0/DE (io), 14 R1/B5 (io), 15 VSSIO (power), 16 VDDIO (power), 17 R2/B4 (io), 18 R3/B3 (io), 19 R4/B2 (io), 20 R5/B1 (io), 21 G0/B0 (io), 22 G1/G5 (io), 23 G2/G4 (io), 24 G3 (io), 25 VSS CORE (power), 26 VDD CORE (power), 27 G4/G2 (io), 28 G5/G1 (io), 29 B0/G0 (io), 30 B1/R5 (io), 31 B2/R4 (io), 32 B3/R3 (io), 33 B4/R2 (io), 34 B5/R1 (io), 35 VSSIO (power), 36 VDDIO (power), 37 DE/R0 (io), 38 VS/PCLK (io), 39 HS/PE (io), 40 ~{PD} (in), 41 DAP (power)

## LM2506SQ/NOPB
designator U?
Low Power Mobile Pixel Link (MPL) Level 0, 18-bit RGB Display Interface Serializer and Deserializer, 40-pin LLP, Pb-Free; PartNumber: LM2506SQ/NOPB; Manufacturer: National Semiconductor; PackageTopMarking: NS*UZXYTT*L2506SQ; PowerWise: N; CompType: MiscPower; High-Reliability: Y; DatasheetVersion: Aug-2006; PackageVersion: revB, Jul-2004; PackageReference: SQF40A; PackageDescription: LLP, Quad, 5 x 5 x 0.8mm Body, 40 Lead, 0.4mm Pitch, 3.6 x 3.6mm Exposed Pad; RoHS: Y; PinCount: 40; ComponentLink1Description: Manufacturer URL; ComponentLink1URL: http://www.national.com/; ComponentLink2Description: LM2506 Datasheet; ComponentLink2URL: http://www.national.com/ds/LM/LM2506.pdf; ComponentLink3Description: LM2506 Web Page; ComponentLink3URL: http://www.national.com/pf/LM/LM2506.html; ComponentLink4Description: SQF40A Package Page; ComponentLink4URL: http://www.national.com/packaging/folders/sqf40a.html
footprint SQF40A (QFN, 41-Leads, Body 5x5mm, Pitch 0.4mm, Thermal Pad 3.6x3.6mm, NSC Recommended)
pins: 1 M/~{S} (in), 2 RM1 (in), 3 VDDA (power), 4 MD1/MD0 (io), 5 VSSA (power), 6 MC (io), 7 MD0/MD1 (io), 8 RM0 (in), 9 ~{RGB} (in), 10 ~{PDOUT}/HS (io), 11 TM (in), 12 PCLK/VS (io), 13 R0/DE (io), 14 R1/B5 (io), 15 VSSIO (power), 16 VDDIO (power), 17 R2/B4 (io), 18 R3/B3 (io), 19 R4/B2 (io), 20 R5/B1 (io), 21 G0/B0 (io), 22 G1/G5 (io), 23 G2/G4 (io), 24 G3 (io), 25 VSS CORE (power), 26 VDD CORE (power), 27 G4/G2 (io), 28 G5/G1 (io), 29 B0/G0 (io), 30 B1/R5 (io), 31 B2/R4 (io), 32 B3/R3 (io), 33 B4/R2 (io), 34 B5/R1 (io), 35 VSSIO (power), 36 VDDIO (power), 37 DE/R0 (io), 38 VS/PCLK (io), 39 HS/PE (io), 40 ~{PD} (in), 41 DAP (power)

## LM2506SQX/NOPB
designator U?
Low Power Mobile Pixel Link (MPL) Level 0, 18-bit RGB Display Interface Serializer and Deserializer, 40-pin LLP, Pb-Free; PartNumber: LM2506SQX/NOPB; Manufacturer: National Semiconductor; PackageTopMarking: NS*UZXYTT*L2506SQ; PowerWise: N; CompType: MiscPower; High-Reliability: Y; DatasheetVersion: Aug-2006; PackageVersion: revB, Jul-2004; PackageReference: SQF40A; PackageDescription: LLP, Quad, 5 x 5 x 0.8mm Body, 40 Lead, 0.4mm Pitch, 3.6 x 3.6mm Exposed Pad; RoHS: Y; PinCount: 40; ComponentLink1Description: Manufacturer URL; ComponentLink1URL: http://www.national.com/; ComponentLink2Description: LM2506 Datasheet; ComponentLink2URL: http://www.national.com/ds/LM/LM2506.pdf; ComponentLink3Description: LM2506 Web Page; ComponentLink3URL: http://www.national.com/pf/LM/LM2506.html; ComponentLink4Description: SQF40A Package Page; ComponentLink4URL: http://www.national.com/packaging/folders/sqf40a.html
footprint SQF40A (QFN, 41-Leads, Body 5x5mm, Pitch 0.4mm, Thermal Pad 3.6x3.6mm, NSC Recommended)
pins: 1 M/~{S} (in), 2 RM1 (in), 3 VDDA (power), 4 MD1/MD0 (io), 5 VSSA (power), 6 MC (io), 7 MD0/MD1 (io), 8 RM0 (in), 9 ~{RGB} (in), 10 ~{PDOUT}/HS (io), 11 TM (in), 12 PCLK/VS (io), 13 R0/DE (io), 14 R1/B5 (io), 15 VSSIO (power), 16 VDDIO (power), 17 R2/B4 (io), 18 R3/B3 (io), 19 R4/B2 (io), 20 R5/B1 (io), 21 G0/B0 (io), 22 G1/G5 (io), 23 G2/G4 (io), 24 G3 (io), 25 VSS CORE (power), 26 VDD CORE (power), 27 G4/G2 (io), 28 G5/G1 (io), 29 B0/G0 (io), 30 B1/R5 (io), 31 B2/R4 (io), 32 B3/R3 (io), 33 B4/R2 (io), 34 B5/R1 (io), 35 VSSIO (power), 36 VDDIO (power), 37 DE/R0 (io), 38 VS/PCLK (io), 39 HS/PE (io), 40 ~{PD} (in), 41 DAP (power)